# Altium schematic symbol library 5HTP250-R.SchLib: 2 symbols
Pins are listed as number, name and electrical type; pins without a type are passive.

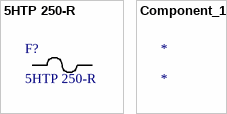
[diagram p0: symbols 5HTP 250-R to Component_1]

## 5HTP 250-R
designator F?
No Description Available; Mfr_Name: Belfuse; Type: DEV; Copyright: Copyright (C) 2022 Ultra Librarian. All rights reserved.; Manufacturer_Part_Number: 5HTP 250-R; Digi-Key_Part_Number_1: 5HTP250-R-ND; RefDes: RefDes
footprint 5HP_Axial_BEL
pins: 1, 2

## Component_1
designator *